# Altium footprint library Project_Vega.PcbLib: 14 footprints
Each footprint in its own frame and in the unit in brackets; x right, y up, seen from the top. Pads: shape width x height; smd on the part's side, far side on the other; paste and mask are expansions set on the pad; w line width, h text height; cw(c..) or ccw(c..) is an arc to the next point about the centre after c.
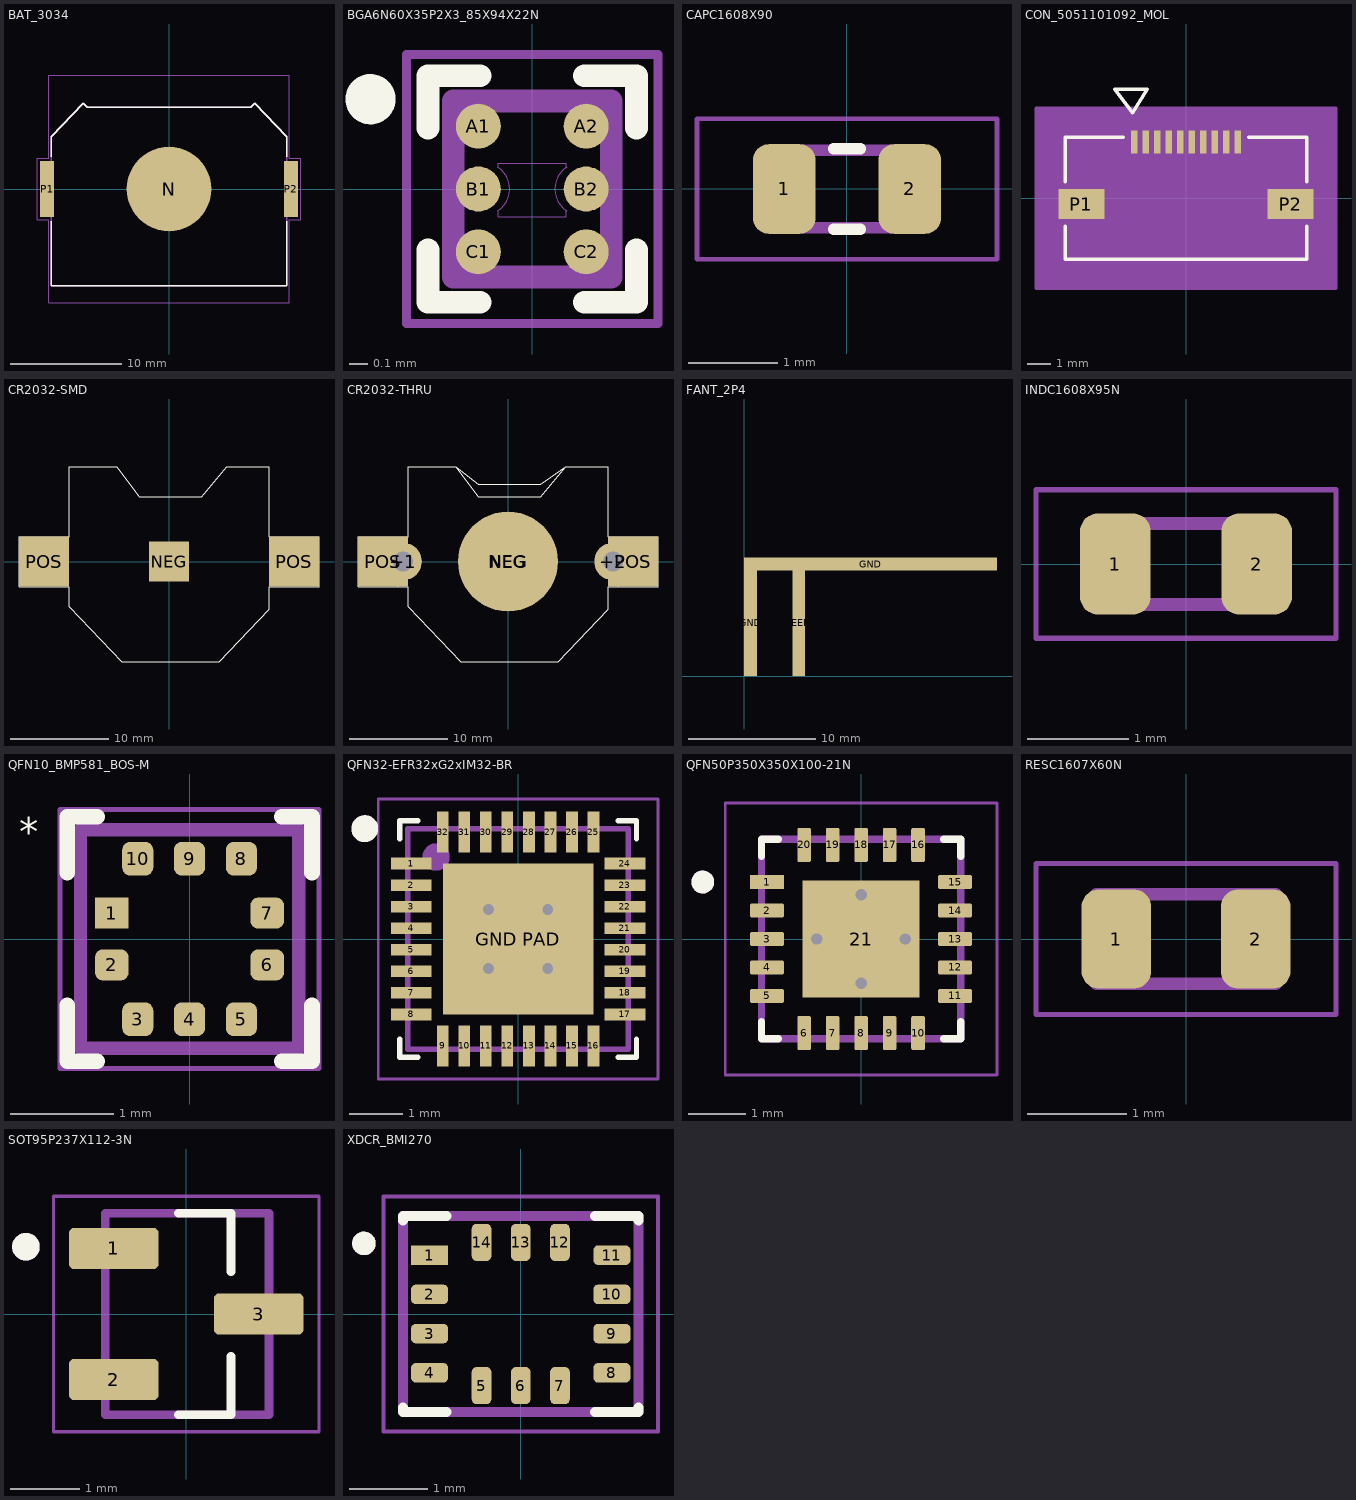
[diagram p0: the footprints below, top view; thin cyan lines are the x and y axes]

## BAT_3034 [mm]
height 4.31
pads (3):
  round 7.62 smd paste-3: N(0,0)
  rect 1.27x5.08 smd: P1(-10.985,0) P2(10.985,0)
Top Overlay:
  lines w0.127: -10.605,-2.9 -10.605,-8.729 10.605,-8.729 10.605,-2.9 ; -10.605,2.9 -10.605,4.723 -7.734,7.741 -7.366,7.391 7.366,7.391 7.734,7.741 10.605,4.723 10.605,2.9
Mechanical 13:
  lines w0.127: -10.605,-8.729 -10.605,4.723 -7.734,7.741 -7.366,7.391 7.366,7.391 7.734,7.741 10.605,4.723 10.605,-8.729 -10.605,-8.729
Mechanical 15:
  lines w0.05: -11.87,-2.79 -11.87,2.79 -10.855,2.79 -10.855,10.25 10.855,10.25 10.855,2.79 11.87,2.79 11.87,-2.79 10.855,-2.79 10.855,-10.25 -10.855,-10.25 -10.855,-2.79 -11.87,-2.79
3D body "3034--3DModel-STEP-630548.STEP": height 4.06, standoff 0, extent -11.62,-8.76 11.62,7.716

## BGA6N60X35P2X3_85X94X22N [mm]
pads (6):
  round 0.25 smd paste-1 mask-0.05: A1(-0.3,0.35) A2(0.3,0.35) B1(-0.3,0) B2(0.3,0) C1(-0.3,-0.35) C2(0.3,-0.35)
Top Overlay:
  circle w0.14: c-0.9,0.5 r0.07
  lines w0.127: -0.58,-0.34 -0.58,-0.63 -0.29,-0.63 ; -0.58,0.34 -0.58,0.63 -0.29,0.63 ; 0.29,-0.63 0.58,-0.63 0.58,-0.34 ; 0.29,0.63 0.58,0.63 0.58,0.34
Top Paste:
  drawing of 6 lines, arcs and shapes, not listed
Mechanical 1:
  lines w0: -0.192,-0.121 ccw(c-0.267,0) -0.192,0.121 ; -0.191,-0.12 -0.191,-0.154 0.191,-0.154 0.191,-0.12 ; -0.191,0.12 -0.191,0.144 0.191,0.144 0.191,0.12 ; 0.192,-0.121 cw(c0.267,0) 0.192,0.121
Mechanical 13:
  lines w0.127: -0.44,-0.49 0.44,-0.49 0.44,0.49 -0.44,0.49 -0.44,-0.49
  text ".Designator" at -0.075,-0.399 h0.15
Mechanical 15:
  lines w0.05: -0.7,-0.75 0.7,-0.75 0.7,0.75 -0.7,0.75 -0.7,-0.75
3D body "step_temp.STEP": height 0.22, standoff -0.01, extent -0.428,-0.473 0.428,0.473

## CAPC1608X90 [mm]
pads (2):
  rrect50% 0.7x1 smd: 1(-0.7,0) 2(0.7,0)
Top Overlay:
  lines w0.127: -0.15,-0.45 0.15,-0.45 ; -0.15,0.45 0.15,0.45
Mechanical 13:
  lines w0.127: -0.838,-0.432 0.838,-0.432 0.838,0.432 -0.838,0.432 -0.838,-0.419
  text ".Designator" at -0.61,-0.178 h0.15
Mechanical 15:
  lines w0.051: -1.673,-0.783 -1.673,0.783 1.673,0.783 1.673,-0.783 -1.673,-0.783
3D body "step_temp.STEP": height 0.9, standoff 0, extent -0.8,-0.4 0.8,0.4

## CON_5051101092_MOL [mm]
pads (12):
  rect 0.3x1 smd paste+0 mask+0.025: 1(-2.25,2.45) 2(-1.75,2.45) 3(-1.25,2.45) 4(-0.75,2.45) 5(-0.25,2.45) 6(0.25,2.45) 7(0.75,2.45) 8(1.25,2.45) 9(1.75,2.45) 10(2.25,2.45)
  rect 2x1.3 smd paste+0 mask+0.025: P1(-4.55,-0.25) P2(4.55,-0.25)
Top Overlay:
  lines w0.152: -5.25,-1.22 -5.25,-2.65 5.25,-2.65 5.25,-1.22 ; -5.25,0.72 -5.25,2.65 -2.72,2.65 ; 2.72,2.65 5.25,2.65 5.25,0.72 ; -3.091,4.736 -2.329,3.72 -1.694,4.736 -3.091,4.736
Mechanical 13:
  lines w0.127: -5.25,-2.65 -5.25,2.65 5.25,2.65 5.25,-2.65 -5.25,-2.65 ; -3.091,4.736 -2.329,3.72 -1.694,4.736 -3.091,4.736
  text ".Designator" at -4.572,-2.159 h1.27
Mechanical 15:
  pour cut-out: 6.52,3.92 -6.52,3.92 -6.52,-3.92 6.52,-3.92
  region: 6.52,3.92 -6.52,3.92 -6.52,-3.92 6.52,-3.92
  lines w0.127: -6.52,-3.92 6.52,-3.92 ; -6.52,-3.92 -6.52,3.92 ; -6.52,-3.92 6.52,-3.92 ; -6.52,-3.92 -6.52,3.92 ; -6.52,3.92 6.52,3.92 ; -6.52,3.92 6.52,3.92 ; 6.52,-3.92 6.52,3.92 ; 6.52,-3.92 6.52,3.92
3D body "5051101092.stp": height 1.88, standoff -0.02, extent -5.25,-2.724 5.25,2.576

## CR2032-SMD [mil]
pads (3):
  rect 160x160 smd: NEG(0,0)
  rect 200x200 smd: POS(-500,0) POS(500,0)
Top Overlay:
  circle w5: c-510,0 r36.06
  circle w5: c500,10 r36.06
  lines w5: -600,-100 -400,-100 -400,-180 -190,-400 200,-400 400,-190 400,-100 600,-100 600,100 400,100 400,380 230,380 130,260 -120,260 -210,380 -400,380 -400,100 -600,100 -600,-100
Top Solder:
  region: 18.54,353.85 37.04,352.39 55.43,349.97 73.67,346.59 91.71,342.26 109.49,336.99 126.98,330.8 144.12,323.7 160.86,315.71 177.17,306.86 192.98,297.17 208.27,286.66 222.99,275.37 237.09,263.32 250.55,250.55 263.32,237.09 275.37,222.99 286.66,208.27 297.17,192.98 306.86,177.17 315.71,160.86 323.7,144.12 330.8,126.98 336.99,109.49 342.26,91.71 346.59,73.67 349.97,55.43 352.39,37.04 353.85,18.54 354.33,0 353.85,-18.54 352.39,-37.04 349.97,-55.43 346.59,-73.67 342.26,-91.71 336.99,-109.49 330.8,-126.98 323.7,-144.12 315.71,-160.86 306.86,-177.17 297.17,-192.98 286.66,-208.27 275.37,-222.99 263.32,-237.09 250.55,-250.55 237.09,-263.32 222.99,-275.37 208.27,-286.66 192.98,-297.17 177.17,-306.86 160.86,-315.71 144.12,-323.7 126.98,-330.8 109.49,-336.99 91.71,-342.26 73.67,-346.59 55.43,-349.97 37.04,-352.39 18.54,-353.85 0,-354.33 -18.54,-353.85 -37.04,-352.39 -55.43,-349.97 -73.67,-346.59 -91.71,-342.26 -109.49,-336.99 -126.98,-330.8 -144.12,-323.7 -160.86,-315.71 -177.17,-306.86 -192.98,-297.17 -208.27,-286.66 -222.99,-275.37 -237.09,-263.32 -250.55,-250.55 -263.32,-237.09 -275.37,-222.99 -286.66,-208.27 -297.17,-192.98 -306.86,-177.17 -315.71,-160.86 -323.7,-144.12 -330.8,-126.98 -336.99,-109.49 -342.26,-91.71 -346.59,-73.67 -349.97,-55.43 -352.39,-37.04 -353.85,-18.54 -354.33,0 -353.85,18.54 -352.39,37.04 -349.97,55.43 -346.59,73.67 -342.26,91.71 -336.99,109.49 -330.8,126.98 -323.7,144.12 -315.71,160.86 -306.86,177.17 -297.17,192.98 -286.66,208.27 -275.37,222.99 -263.32,237.09 -250.55,250.55 -237.09,263.32 -222.99,275.37 -208.27,286.66 -192.98,297.17 -177.17,306.86 -160.86,315.71 -144.12,323.7 -126.98,330.8 -109.49,336.99 -91.71,342.26 -73.67,346.59 -55.43,349.97 -37.04,352.39 -18.54,353.85 0,354.33
Mechanical 1:
  text ".Designator" at -139,-379 h30
3D body "CR2032--3DModel-STEP-56544.STEP": height 125.98, standoff 0, extent -393.7,-393.7 393.7,393.7

## CR2032-THRU [mil]
pads (6):
  round 150 hole 78.74: +1(-420,0) +2(420,0)
  round 400 smd: NEG(0,0)
  rect 160x160 smd: NEG(0,0)
  rect 200x200 smd: POS(-500,0) POS(500,0)
Top Overlay:
  circle w5: c500,10 r36.06
  circle w5: c-510,0 r36.06
  lines w5: -400,-180 -190,-400 ; -400,-180 -400,-100 ; -400,-180 -190,-400 ; -400,-180 -400,-100 ; -400,-100 -440,-100 -440,100 -400,100 ; -400,-100 -600,-100 -600,100 -400,100 ; -400,100 -400,380 ; -400,100 -400,380 ; -400,380 -210,380 ; -400,380 -210,380 ; -210,380 -120,310 130,310 230,380 ; -210,380 -120,260 130,260 230,380 ; -190,-400 200,-400 ; -190,-400 200,-400 ; 200,-400 400,-190 ; 200,-400 400,-190 ; 230,380 400,380 ; 230,380 400,380 ; 400,-190 400,-100 ; 400,-190 400,-100 ; 400,-100 440,-100 440,100 400,100 ; 400,-100 600,-100 600,100 400,100 ; 400,100 400,380 ; 400,100 400,380
Top Solder:
  drawing of 2 lines, arcs and shapes, not listed
Mechanical 1:
  text ".Designator" at -130,-375.02 h60
3D body "CR2032--3DModel-STEP-56544.STEP": height 125.98, standoff 0, extent -393.7,-393.7 393.7,393.7

## FANT_2P4 [mil]
pads (3):
  rect 40x331 smd paste-1000 mask+4: FEED(169,165.5) GND(20,165.5)
  rect 782x39 smd paste-1000 mask+4: GND(391,346.5)

## INDC1608X95N [mm]
pads (2):
  rrect50% 0.7x1 smd: 1(-0.7,0) 2(0.7,0)
Mechanical 13:
  lines w0.127: -0.8,-0.4 0.8,-0.4 0.8,0.4 -0.8,0.4 -0.8,-0.4
  text ".Designator" at -0.584,-0.119 h0.25
Mechanical 15:
  lines w0.05: -1.485,-0.735 -1.485,0.735 1.485,0.735 1.485,-0.735 -1.485,-0.735
3D body "step_temp.STEP": height 0.95, standoff 0, extent -0.8,-0.4 0.8,0.4

## QFN10_BMP581_BOS-M [mm]
pads (10):
  rect 0.325x0.3 smd paste+0: 1(-0.75,0.25)
  rrect50% 0.325x0.3 smd paste+0: 2(-0.75,-0.25) 6(0.75,-0.25) 7(0.75,0.25)
  rrect50% 0.3x0.325 smd paste+0: 3(-0.5,-0.775) 4(0,-0.775) 5(0.5,-0.775) 8(0.5,0.775) 9(0,0.775) 10(-0.5,0.775)
Top Overlay:
  lines w0.152: -1.181,-0.643 -1.181,-1.181 -0.893,-1.181 ; -1.181,0.643 -1.181,1.181 -0.893,1.181 ; 0.893,-1.181 1.181,-1.181 1.181,-0.643 ; 0.893,1.181 1.181,1.181 1.181,0.643
  text "*" at -1.646,0.903 h0.27
Mechanical 13:
  lines w0.127: -1.054,-1.054 -1.054,1.054 1.054,1.054 1.054,-1.054 -1.054,-1.054
  text ".Designator" at -0.294,-0.192 h0.15
Mechanical 15:
  lines w0.05: -1.25,-1.25 1.25,-1.25 1.25,1.25 -1.25,1.25 -1.25,-1.25
3D body "QFN10_BMP581_BOS.step": height 0.81, standoff 0, extent -1.054,-1.054 1.054,1.054

## QFN32-EFR32xG2xIM32-BR [mm] "QFN, 32-Leads, Body 4.00x4.00mm, Pitch 0.40mm, Thermal Pad 2.80x2.80mm, IPC Medium Density"
height 0.9
pads (33):
  rect 0.76x0.22 smd mask+0.06: 1(-1.985,1.4) 2(-1.985,1) 3(-1.985,0.6) 4(-1.985,0.2) 5(-1.985,-0.2) 6(-1.985,-0.6) 7(-1.985,-1) 8(-1.985,-1.4) 17(1.985,-1.4) 18(1.985,-1) 19(1.985,-0.6) 20(1.985,-0.2) 21(1.985,0.2) 22(1.985,0.6) 23(1.985,1) 24(1.985,1.4)
  rect 0.22x0.76 smd mask+0.06: 9(-1.4,-1.985) 10(-1,-1.985) 11(-0.6,-1.985) 12(-0.2,-1.985) 13(0.2,-1.985) 14(0.6,-1.985) 15(1,-1.985) 16(1.4,-1.985) 25(1.4,1.985) 26(1,1.985) 27(0.6,1.985) 28(0.2,1.985) 29(-0.2,1.985) 30(-0.6,1.985) 31(-1,1.985) 32(-1.4,1.985)
  rect 2.8x2.8 smd mask+0.06: "GND PAD"(0,0)
via -0.55,0.55 diameter 0.5 hole 0.2
via 0.55,0.55 diameter 0.5 hole 0.2
via -0.55,-0.55 diameter 0.5 hole 0.2
via 0.55,-0.55 diameter 0.5 hole 0.2
Top Overlay:
  circle w0.25: c-2.85,2.05 r0.125
  lines w0.1: -2.2,-1.86 -2.2,-2.2 -1.86,-2.2 ; -2.2,1.86 -2.2,2.2 -1.86,2.2 ; 1.86,-2.2 2.2,-2.2 2.2,-1.86 ; 1.86,2.2 2.2,2.2 2.2,1.86
Mechanical 13:
  circle w0.254: c-1.524,1.524 r0.127
  lines w0.1: -2.05,-2.05 -2.05,2.05 2.05,2.05 2.05,-2.05 -2.05,-2.05
  text ".Designator" at -1.785,-1.568 h0.65
Mechanical 15:
  lines w0.05: -2.6,-2.6 -2.6,2.6 2.6,2.6 2.6,-2.6 -2.6,-2.6
  lines w0.1: -0.5,0 0.5,0 ; 0,-0.5 0,0.5
3D body "QFN32-EFR32BG21A010F1024IM32-BR.step": height 0.9, standoff 0, extent -2.051,-2.051 2.051,2.051

## QFN50P350X350X100-21N [mm]
pads (21):
  rect 0.6x0.24 smd: 1(-1.65,1)
  rrect25% 0.6x0.24 smd: 2(-1.65,0.5) 3(-1.65,0) 4(-1.65,-0.5) 5(-1.65,-1) 11(1.65,-1) 12(1.65,-0.5) 13(1.65,0) 14(1.65,0.5) 15(1.65,1)
  rrect25% 0.24x0.6 smd: 6(-1,-1.65) 7(-0.5,-1.65) 8(0,-1.65) 9(0.5,-1.65) 10(1,-1.65) 16(1,1.65) 17(0.5,1.65) 18(0,1.65) 19(-0.5,1.65) 20(-1,1.65)
  rect 2.05x2.05 smd paste-0.375: 21(0,0)
via 0,-0.775 diameter 0.2 hole 0.2
via 0.775,0 diameter 0.2 hole 0.2
via 0,0.775 diameter 0.2 hole 0.2
via -0.775,0 diameter 0.2 hole 0.2
Top Overlay:
  circle w0.2: c-2.78,1 r0.1
  lines w0.127: -1.75,-1.45 -1.75,-1.75 -1.45,-1.75 ; -1.75,1.45 -1.75,1.75 -1.45,1.75 ; 1.45,-1.75 1.75,-1.75 1.75,-1.45 ; 1.45,1.75 1.75,1.75 1.75,1.45
Mechanical 13:
  circle w0.2: c-2.78,1 r0.1
  lines w0.127: -1.75,-1.75 -1.75,1.75 1.75,1.75 1.75,-1.75 -1.75,-1.75
  text ".Designator" at -1.159,-1.215 h0.25
Mechanical 15:
  lines w0.05: -2.385,-2.385 -2.385,2.385 2.385,2.385 2.385,-2.385 -2.385,-2.385
3D body "step_temp.STEP": height 1, standoff 0, extent -1.75,-1.75 1.75,1.75

## RESC1607X60N [mm]
pads (2):
  rrect50% 0.7x1 smd: 1(-0.7,0) 2(0.7,0)
Mechanical 13:
  lines w0.127: -0.9,-0.45 0.9,-0.45 0.9,0.45 -0.9,0.45 -0.9,-0.45
  text ".Designator" at -0.755,-0.294 h0.15
Mechanical 15:
  lines w0.05: -1.508,-0.761 1.508,-0.761 1.508,0.761 -1.508,0.761 -1.508,-0.761
3D body "RC0603JR-070RL--3DModel-STEP-510211.STEP": height 0.55, standoff 0, extent -0.8,-0.4 0.8,0.4

## SOT95P237X112-3N [mm]
height 1.12
pads (3):
  rrect25% 1.3x0.6 smd: 1(-1.05,0.95) 2(-1.05,-0.95) 3(1.05,0)
Top Overlay:
  circle w0.2: c-2.325,0.975 r0.1
  lines w0.127: -0.115,-1.46 0.65,-1.46 0.65,-0.615 ; -0.115,1.46 0.65,1.46 0.65,0.615
Mechanical 1:
  text ".Designator" at -0.999,-1.24 h0.25
Mechanical 13:
  circle w0.2: c-2.325,0.975 r0.1
  lines w0.127: -1.175,-1.46 1.2,-1.46 1.2,1.46 -1.175,1.46 -1.175,-1.46
Mechanical 15:
  lines w0.05: -1.925,-1.71 -1.925,1.71 1.925,1.71 1.925,-1.71 -1.925,-1.71
3D body "TMAG5231A2DQDBZR.STEP": height 1.12, standoff 0, extent -1.185,-1.46 1.185,1.46

## XDCR_BMI270 [mm]
height 0.87
pads (14):
  rect 0.475x0.25 smd: 1(-1.162,0.75)
  rrect50% 0.475x0.25 smd: 2(-1.162,0.25) 3(-1.162,-0.25) 4(-1.162,-0.75) 8(1.162,-0.75) 9(1.162,-0.25) 10(1.162,0.25) 11(1.162,0.75)
  rrect50% 0.25x0.475 smd: 5(-0.5,-0.913) 6(0,-0.913) 7(0.5,-0.913) 12(0.5,0.913) 13(0,0.913) 14(-0.5,0.913)
Top Overlay:
  circle w0.15: c-2,0.9 r0.075
  lines w0.127: -1.5,-1.195 -1.5,-1.25 -0.945,-1.25 ; -1.5,1.195 -1.5,1.25 -0.945,1.25 ; 0.945,-1.25 1.5,-1.25 1.5,-1.195 ; 0.945,1.25 1.5,1.25 1.5,1.195
Mechanical 13:
  circle w0.15: c-2,0.9 r0.075
  lines w0.127: -1.5,-1.25 1.5,-1.25 1.5,1.25 -1.5,1.25 -1.5,-1.25
  text ".Designator" at -0.506,-0.335 h0.15
Mechanical 15:
  lines w0.05: -1.75,-1.5 -1.75,1.5 1.75,1.5 1.75,-1.5 -1.75,-1.5
3D body "step_temp.STEP": height 0.87, standoff 0, extent -1.5,-1.25 1.5,1.25